# Altium footprint library IC.PcbLib: 37 footprints (part 3 of 3)
Each footprint in its own frame and in the unit in brackets; x right, y up, seen from the top. Pads: shape width x height; smd on the part's side, far side on the other; paste and mask are expansions set on the pad; w line width, h text height; cw(c..) or ccw(c..) is an arc to the next point about the centre after c.
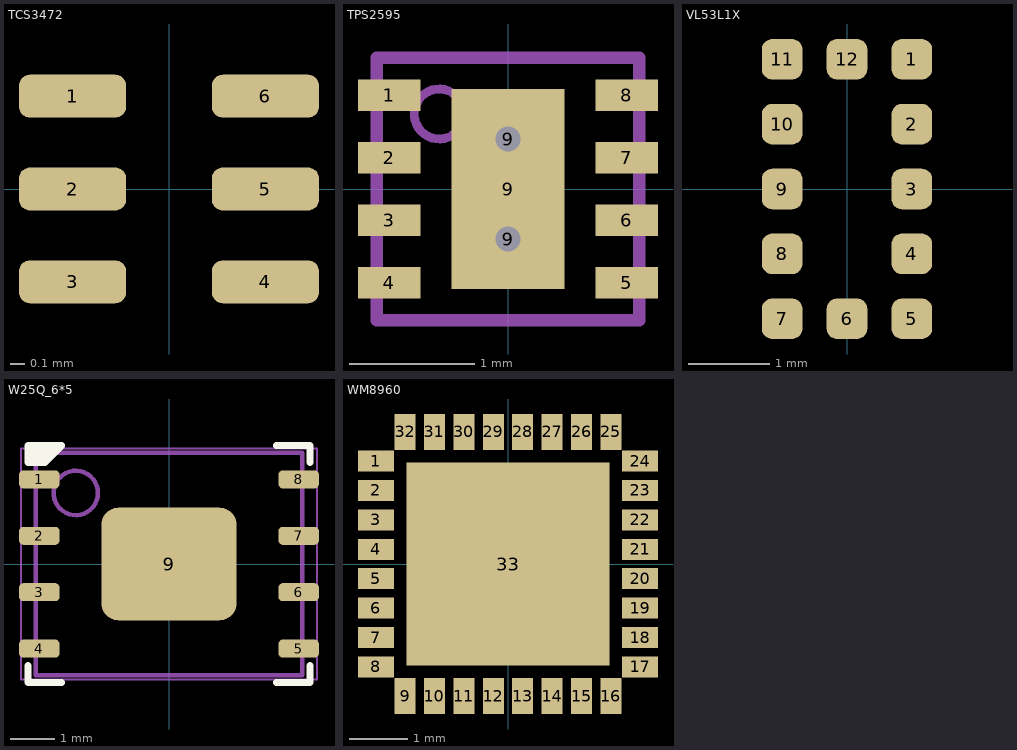
[diagram p2: the footprints below, top view; thin cyan lines are the x and y axes]

## TCS3472 [mm]
pads (6):
  rrect50% 0.75x0.3 smd paste+0 mask+0.102: 1(-0.675,0.65) 2(-0.675,0) 3(-0.675,-0.65) 4(0.675,-0.65) 5(0.675,0) 6(0.675,0.65)
3D body "User Library-TCS3472.step": height 0.65, standoff 0, extent -1.05,-1.2 1.05,1.2

## TPS2595 [mm]
pads (11):
  rect 0.5x0.25 smd paste+0 mask+0.051: 1(-0.95,0.75) 2(-0.95,0.25) 3(-0.95,-0.25) 4(-0.95,-0.75) 5(0.95,-0.75) 6(0.95,-0.25) 7(0.95,0.25) 8(0.95,0.75)
  round 0.5 / inner round 1.524 / far side round 0.5 hole 0.203 mask+0.076: 9(0,-0.4) 9(0,0.4)
  rect 0.9x1.6 smd paste-0.45 mask+0.051: 9(0,0)
Top Paste:
  region: -0.427,0.733 -0.427,-0.733 0.427,-0.733 0.427,0.733
Mechanical 13:
  circle w0.07: c-0.55,0.6 r0.2
  lines w0.1: -1.05,-1.05 1.05,-1.05 1.05,1.05 -1.05,1.05 -1.05,-1.05
3D body "User Library-SON8-2x2mm-1.STEP": height 0.77, standoff -0.03, extent -1,-1 1,1
3D body: height 0.25, standoff 0, extent 0,0 0.254,0.254

## VL53L1X [mm]
pads (12):
  rrect50% 0.5x0.5 smd: 1(0.8,1.6) 2(0.8,0.8) 3(0.8,0) 4(0.8,-0.8) 5(0.8,-1.6) 6(0,-1.6) 7(-0.8,-1.6) 8(-0.8,-0.8) 9(-0.8,0) 10(-0.8,0.8) 11(-0.8,1.6) 12(0,1.6)
3D body "User Library-vl53l1x.step": height 1.56, standoff -0.03, extent -1.25,-2.45 1.25,2.45

## W25Q_6*5 [mil]
pads (9):
  rrect50% 36x16 smd: 1(-115,75) 2(-115,25) 3(-115,-25) 4(-115,-75) 5(115,-75) 6(115,-25) 7(115,25) 8(115,75)
  rrect30% 120x100 smd paste-84.65: 9(0,0)
Top Overlay:
  region: -125,105 -95,105 -110,90 -125,90
  lines w6: -125,-90 -125,-105 -95,-105 ; 95,-105 125,-105 125,-90 ; 95,105 125,105 125,90 ; -125,90 -110,90 -95,105 -125,105 -125,90
Top Paste:
  rectangle: -24.2,-18.31 24.23,18.31
Mechanical 13:
  circle w3.94: c-82.68,62.99 r19.68
  lines w4: -19.68,0 19.69,0 ; 0,-19.68 0,19.68 ; -118.11,-98.43 118.11,-98.43 118.11,98.43 -118.11,98.43 -118.11,-98.43
Mechanical 15:
  lines w2: -131.3,-102.36 131.3,-102.36 131.3,102.36 -131.3,102.36 -131.3,-102.36
3D body "SON127P600X75_HS-9L.step": height 29.53, standoff 0, extent -118.9,-98.43 118.9,98.43

## WM8960 [mil]
pads (33):
  rect 24x14 smd paste+0 mask+0: 1(-88.43,68.9) 2(-88.43,49.21) 3(-88.43,29.53) 4(-88.43,9.84) 5(-88.43,-9.84) 6(-88.43,-29.53) 7(-88.43,-49.21) 8(-88.43,-68.9) 17(88.43,-68.9) 18(88.43,-49.21) 19(88.43,-29.53) 20(88.43,-9.84) 21(88.43,9.84) 22(88.43,29.53) 23(88.43,49.21) 24(88.43,68.9)
  rect 14x24 smd paste+0 mask+0: 9(-68.9,-88.43) 10(-49.21,-88.43) 11(-29.53,-88.43) 12(-9.84,-88.43) 13(9.84,-88.43) 14(29.53,-88.43) 15(49.21,-88.43) 16(68.9,-88.43) 25(68.9,88.43) 26(49.21,88.43) 27(29.53,88.43) 28(9.84,88.43) 29(-9.84,88.43) 30(-29.53,88.43) 31(-49.21,88.43) 32(-68.9,88.43)
  rect 136x136 smd paste-67.5 mask+0: 33(0,0)
3D body "WM8960CGEFLV_CIR.step": height 39.09, standoff 0, extent -98.5,-98.49 98.51,98.51